# Altium footprint library CAPC2416X135.PcbLib: 3 footprints
Each footprint in its own frame and in the unit in brackets; x right, y up, seen from the top. Pads: shape width x height; smd on the part's side, far side on the other; paste and mask are expansions set on the pad; w line width, h text height; cw(c..) or ccw(c..) is an arc to the next point about the centre after c.
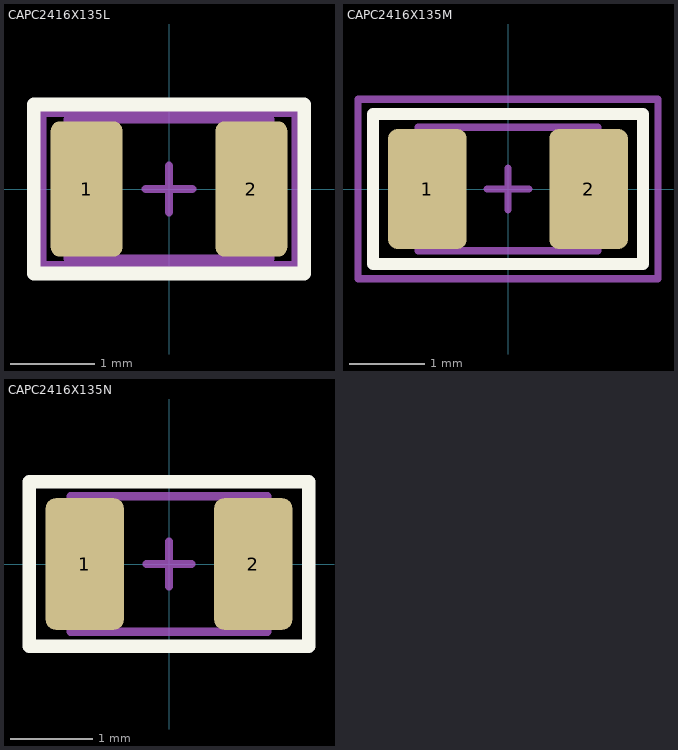
[diagram p0: the footprints below, top view; thin cyan lines are the x and y axes]

## CAPC2416X135L [mm] "Capacitors, Chip, Non-polarized"
height 1.45
pads (2):
  rrect25% 0.85x1.6 smd: 1(-0.975,0) 2(0.975,0)
Top Overlay:
  lines w0.16: -1.6,-1 1.6,-1 1.6,1 -1.6,1 -1.6,-1
Top Component Center:
  lines w0.1: -0.275,0 0.275,0 ; 0,-0.275 0,0.275
Top Courtyard:
  lines w0.1: -1.5,-0.9 1.5,-0.9 1.5,0.9 -1.5,0.9 -1.5,-0.9
Top Assembly:
  lines w0.1: -1.2,-0.825 1.2,-0.825 1.2,0.825 -1.2,0.825 -1.2,-0.825
  text ".Designator" at 0,0 h1
3D body "CAPC2416X135L.STEP": height 1.35, standoff 0, extent -1.2,-0.825 1.2,0.825

## CAPC2416X135M [mm] "Capacitors, Chip, Non-polarized"
height 1.45
pads (2):
  rrect24% 1.05x1.6 smd: 1(-1.075,0) 2(1.075,0)
Top Overlay:
  lines w0.16: -1.8,-1 1.8,-1 1.8,1 -1.8,1 -1.8,-1
Top Component Center:
  lines w0.1: -0.275,0 0.275,0 ; 0,-0.275 0,0.275
Top Courtyard:
  lines w0.1: -2,-1.2 2,-1.2 2,1.2 -2,1.2 -2,-1.2
Top Assembly:
  lines w0.1: -1.2,-0.825 1.2,-0.825 1.2,0.825 -1.2,0.825 -1.2,-0.825
  text ".Designator" at 0,0 h1
3D body "CAPC2416X135M.STEP": height 1.35, standoff 0, extent -1.2,-0.825 1.2,0.825

## CAPC2416X135N [mm] "Capacitors, Chip, Non-polarized"
height 1.45
pads (2):
  rrect25% 0.95x1.6 smd: 1(-1.025,0) 2(1.025,0)
Top Overlay:
  lines w0.16: -1.7,-1 1.7,-1 1.7,1 -1.7,1 -1.7,-1
Top Component Center:
  lines w0.1: -0.275,0 0.275,0 ; 0,-0.275 0,0.275
Top Courtyard:
  lines w0.1: -1.7,-1 1.7,-1 1.7,1 -1.7,1 -1.7,-1
Top Assembly:
  lines w0.1: -1.2,-0.825 1.2,-0.825 1.2,0.825 -1.2,0.825 -1.2,-0.825
  text ".Designator" at 0,0 h1
3D body "CAPC2416X135N.STEP": height 1.35, standoff 0, extent -1.2,-0.825 1.2,0.825